# EAGLE library part FSI-120-D-AD (library C3-Connector)
10 pin x 2 row FSI contact pads
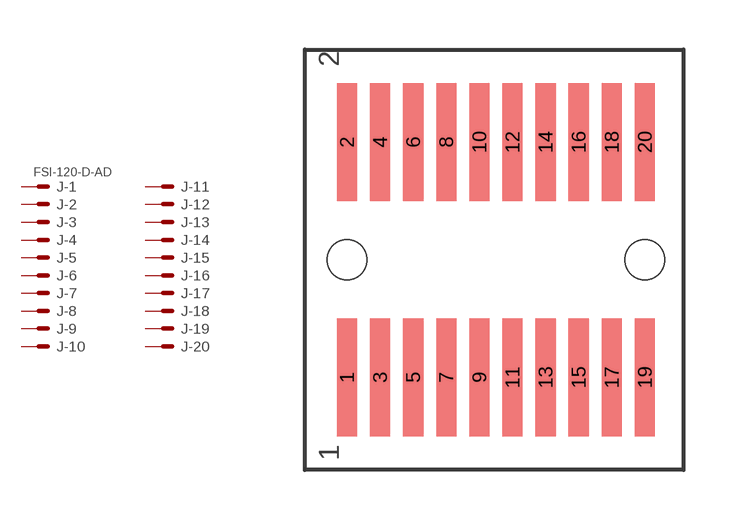
[diagram p1: symbol with the pads of FSI-120-D-AD-FOOT; footprint FSI-120-D-AD-FOOT]

Designator prefix J; gates -1=MV -2=M -3=M -4=M -5=M -6=M -7=M -8=M -9=M -10=M -11=M -12=M -13=M -14=M -15=M -16=M -17=M -18=M -19=M -20=M

## FSI-120-D-ADD-AD  [FSI-120-D-AD-FOOT]
1  -1:S  pas
2  -2:S  pas
3  -3:S  pas
4  -4:S  pas
5  -5:S  pas
6  -6:S  pas
7  -7:S  pas
8  -8:S  pas
9  -9:S  pas
10  -10:S  pas
11  -11:S  pas
12  -12:S  pas
13  -13:S  pas
14  -14:S  pas
15  -15:S  pas
16  -16:S  pas
17  -17:S  pas
18  -18:S  pas
19  -19:S  pas
20  -20:S  pas

## Footprint FSI-120-D-AD-FOOT (pad centres in mm)
Samtec FSI 1.00mm Pitch 20 Contact (10x2) Footprint Datasheet <http://www.samtec.com/documents/webfiles/cpdf/FSI-MATING%20BOARD.pdf>
smd 0.61 x 3.55: 1 0,-3.555; 2 0,3.555; 3 1,-3.555; 4 1,3.555; 5 2,-3.555; 6 2,3.555; 7 3,-3.555; 8 3,3.555; 9 4,-3.555; 10 4,3.555; 11 5,-3.555; 12 5,3.555; 13 6,-3.555; 14 6,3.555; 15 7,-3.555; 16 7,3.555; 17 8,-3.555; 18 8,3.555; 19 9,-3.555; 20 9,3.555
hole 1.194 at 0,0
hole 1.194 at 9,0